# Altium footprint library footprints.PcbLib: 160 footprints (part 2 of 10)
Each footprint in its own frame and in the unit in brackets; x right, y up, seen from the top. Pads: shape width x height; smd on the part's side, far side on the other; paste and mask are expansions set on the pad; w line width, h text height; cw(c..) or ccw(c..) is an arc to the next point about the centre after c.
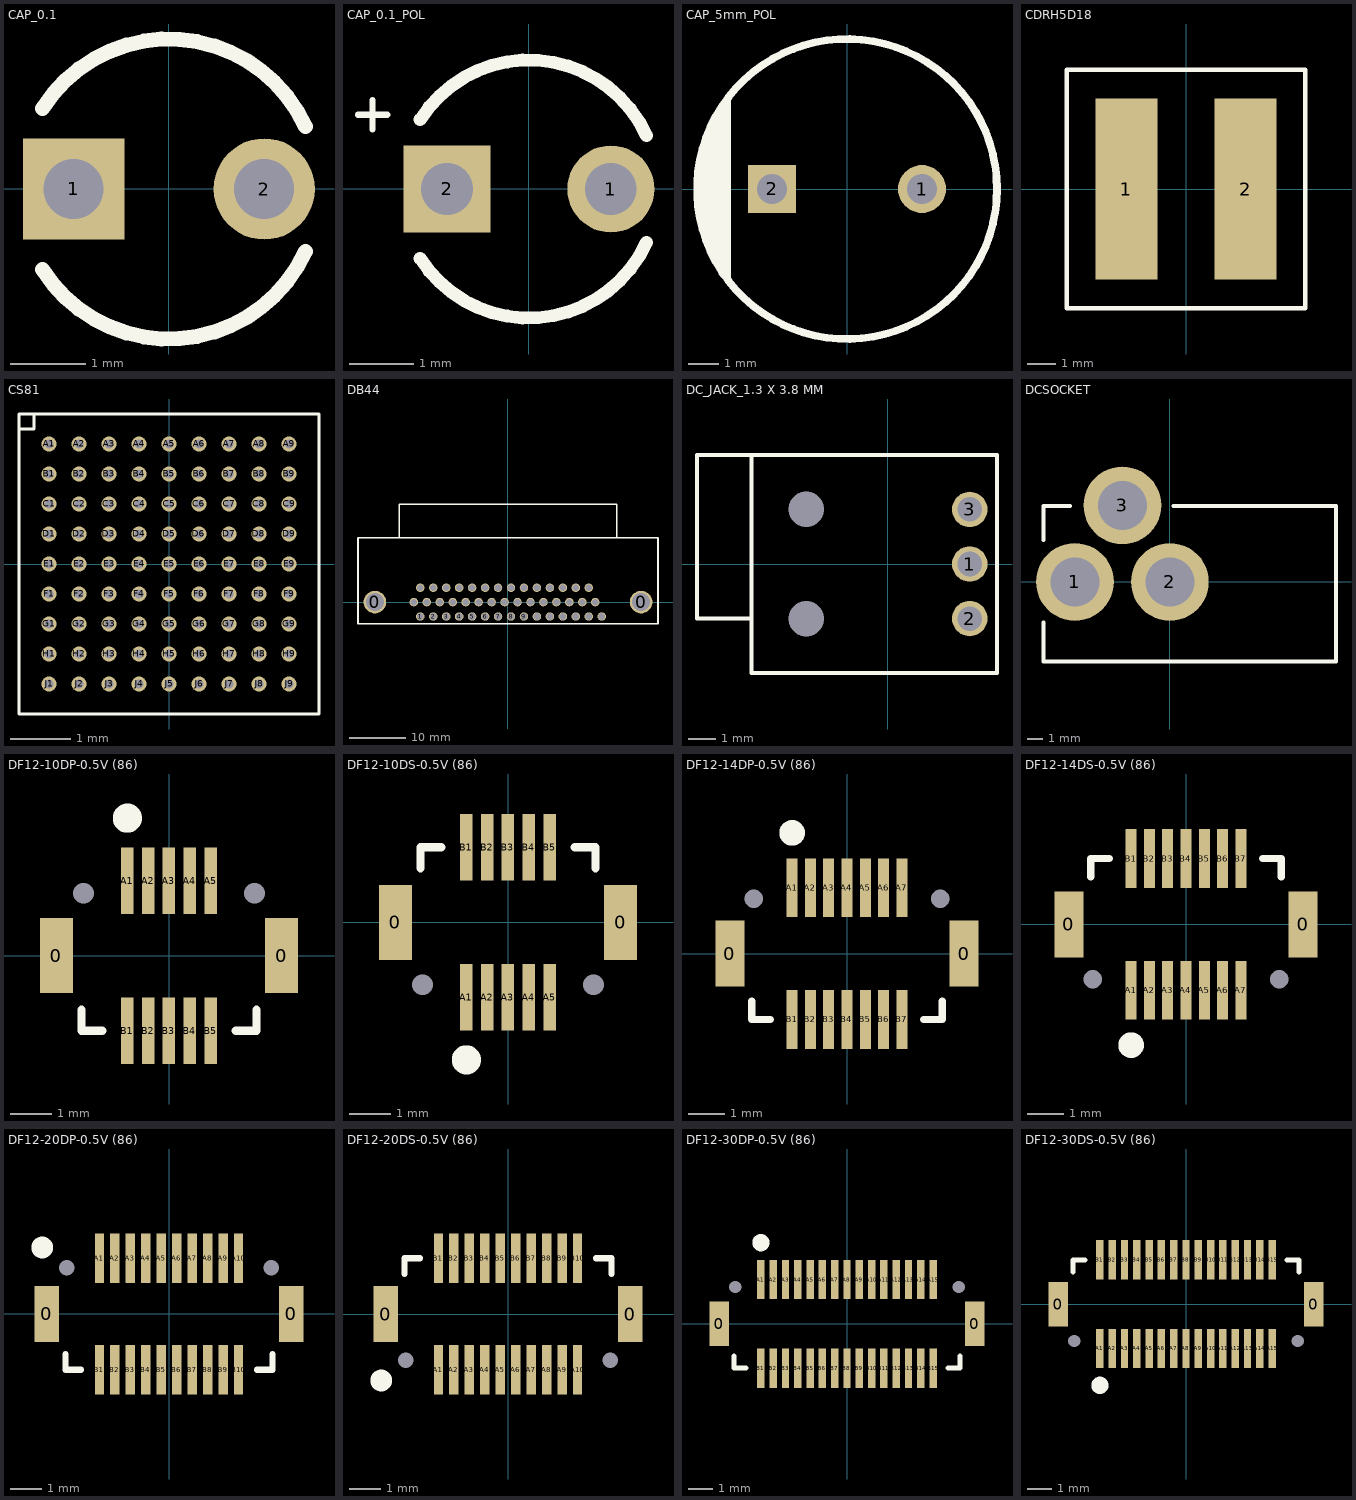
[diagram p1: the footprints below, top view; thin cyan lines are the x and y axes]

## CAP_0.1 [mm] "Capacitor; 2 Leads, 0.1\" spacing"
height 12
pads (2):
  rect 1.35x1.35 hole 0.8: 1(-1.27,0)
  round 1.35 hole 0.8: 2(1.27,0)
Top Overlay:
  lines w0.2: -1.687,-1.075 ccw(c0,0) 1.819,-0.832 ; -1.687,1.075 cw(c0,0) 1.819,0.832

## CAP_0.1_POL [mm] "Capacitor; 2 Leads, 0.1\" spacing, polarisation marker"
height 12
pads (2):
  round 1.35 hole 0.8: 1(1.27,0)
  rect 1.35x1.35 hole 0.8: 2(-1.27,0)
Top Overlay:
  lines w0.1: -2.65,1.15 -2.2,1.15 ; -2.425,0.925 -2.425,1.375
  lines w0.2: -1.687,-1.075 ccw(c0,0) 1.819,-0.832 ; -1.687,1.075 cw(c0,0) 1.819,0.832

## CAP_5mm_POL [mm] "Capacitor; 2 Leads, 5mm lead spacing, polarisation marker"
height 12
pads (2):
  round 1.6 hole 1: 1(2.5,0)
  rect 1.6x1.6 hole 1: 2(-2.5,0)
Top Overlay:
  circle w0.254: c0,0 r5
  lines w0.254: -4.75,-0.85 -4.75,1 ; -4.65,-1.45 -4.65,1.7 -4.5,1.85 -4.5,-2.15 -4.35,-2.3 -4.35,2.3 -4.15,2.5 -4.15,-2.8 -4,-2.95 -4,2.9

## CDRH5D18 [mm] "Inductor"
pads (2):
  rect 2.15x6.3 smd: 1(-2.075,0) 2(2.075,0)
Top Overlay:
  lines w0.152: -4.15,-4.15 -4.15,4.15 4.15,4.15 4.15,-4.15 -4.15,-4.15

## CS81 [mm]
height 0.8
pads (81):
  round 0.25 hole 0.152 mask+0.051: A1(-2,2) A2(-1.5,2) A3(-1,2) A4(-0.5,2) A5(0,2) A6(0.5,2) A7(1,2) A8(1.5,2) A9(2,2) B1(-2,1.5) B2(-1.5,1.5) B3(-1,1.5) B4(-0.5,1.5) B5(0,1.5) B6(0.5,1.5) B7(1,1.5) B8(1.5,1.5) B9(2,1.5) C1(-2,1) C2(-1.5,1) C3(-1,1) C4(-0.5,1) C5(0,1) C6(0.5,1) C7(1,1) C8(1.5,1) C9(2,1) D1(-2,0.5) D2(-1.5,0.5) D3(-1,0.5) D4(-0.5,0.5) D5(0,0.5) D6(0.5,0.5) D7(1,0.5) D8(1.5,0.5) D9(2,0.5) E1(-2,0) E2(-1.5,0) E3(-1,0) E4(-0.5,0) E5(0,0) E6(0.5,0) E7(1,0) E8(1.5,0) E9(2,0) F1(-2,-0.5) F2(-1.5,-0.5) F3(-1,-0.5) F4(-0.5,-0.5) F5(0,-0.5) F6(0.5,-0.5) F7(1,-0.5) F8(1.5,-0.5) F9(2,-0.5) G1(-2,-1) G2(-1.5,-1) G3(-1,-1) G4(-0.5,-1) G5(0,-1) G6(0.5,-1) G7(1,-1) G8(1.5,-1) G9(2,-1) H1(-2,-1.5) H2(-1.5,-1.5) H3(-1,-1.5) H4(-0.5,-1.5) H5(0,-1.5) H6(0.5,-1.5) H7(1,-1.5) H8(1.5,-1.5) H9(2,-1.5) J1(-2,-2) J2(-1.5,-2) J3(-1,-2) J4(-0.5,-2) J5(0,-2) J6(0.5,-2) J7(1,-2) J8(1.5,-2) J9(2,-2)
Top Overlay:
  lines w0.051: -2.5,2.25 -2.25,2.25 -2.25,2.5 ; -2.5,-2.5 -2.5,2.5 2.5,2.5 2.5,-2.5 -2.5,-2.5
3D body: height 0.8, standoff 0.07, extent -2.494,-2.525 2.5,2.5

## DB44 [mm] "DB44 high density right angle, through hole"
height 12.5
pads (46):
  round 4 hole 3.18: 0(-23.52,0) 0(23.52,0)
  round 1.5 hole 1.19: 1(-15.5,-2.54) 2(-13.21,-2.54) 3(-10.92,-2.54) 4(-8.63,-2.54) 5(-6.34,-2.54) 6(-4.05,-2.54) 7(-1.76,-2.54) 8(0.53,-2.54) 9(2.82,-2.54) 10(5.11,-2.54) 11(7.4,-2.54) 12(9.69,-2.54) 13(11.98,-2.54) 14(14.27,-2.54) 15(16.56,-2.54) 16(-16.64,0) 17(-14.35,0) 18(-12.06,0) 19(-9.77,0) 20(-7.48,0) 21(-5.19,0) 22(-2.9,0) 23(-0.61,0) 24(1.68,0) 25(3.97,0) 26(6.26,0) 27(8.55,0) 28(10.84,0) 29(13.13,0) 30(15.42,0) 31(-15.5,2.54) 32(-13.21,2.54) 33(-10.92,2.54) 34(-8.63,2.54) 35(-6.34,2.54) 36(-4.05,2.54) 37(-1.76,2.54) 38(0.53,2.54) 39(2.82,2.54) 40(5.11,2.54) 41(7.4,2.54) 42(9.69,2.54) 43(11.98,2.54) 44(14.27,2.54)
Top Overlay:
  lines w0.3: -19.2,11.37 -19.2,17.27 19.2,17.27 19.2,11.37 ; -26.5,-3.8 -26.5,11.37 26.5,11.37 26.5,-3.8 -26.5,-3.8
3D body: height 12.35, standoff -4.47, extent -26.675,-3.755 26.375,17.205

## DC_JACK_1.3 X 3.8 MM [mm]
pads (5):
  round 0 hole 1.3 unplated: 0(-3,-2) 0(-3,2)
  round 1.3 hole 0.9: 1(3,0) 2(3,-2) 3(3,2)
Top Overlay:
  lines w0.152: -5,-2 -7,-2 -7,4 -5,4 ; -5,4 4,4 4,-4 -5,-4 -5,4

## DCSOCKET [mm]
pads (3):
  round 5.08 hole 3.2: 1(-6.2,0) 2(0,0) 3(-3.1,5)
Top Overlay:
  lines w0.254: -8.248,-2.65 -8.248,-5.2 10.85,-5.2 10.85,4.95 0.25,4.95 ; -8.248,2.748 -8.248,4.95 -6.5,4.95

## DF12-10DP-0.5V (86) [mm] "board to board header, 0.5mm pitch, 10 pin, with metal fitting"
height 3
pads (14):
  rect 0.8x1.8 smd: 0(-2.7,0) 0(2.7,0)
  round 0 hole 0.5: 0(-2.05,1.5) 0(2.05,1.5)
  rect 0.3x1.6 smd: A1(-1,1.8) A2(-0.5,1.8) A3(0,1.8) A4(0.5,1.8) A5(1,1.8) B1(-1,-1.8) B2(-0.5,-1.8) B3(0,-1.8) B4(0.5,-1.8) B5(1,-1.8)
Top Overlay:
  circle w0.5: c-1,3.3 r0.1
  lines w0.2: -2.1,-1.3 -2.1,-1.8 -1.6,-1.8 ; 1.6,-1.8 2.1,-1.8 2.1,-1.3

## DF12-10DS-0.5V (86) [mm] "board to board receptacle, 0.5mm pitch, 10 pin, with metal fitting"
height 3
pads (14):
  rect 0.8x1.8 smd: 0(-2.7,0) 0(2.7,0)
  round 0 hole 0.5: 0(-2.05,-1.5) 0(2.05,-1.5)
  rect 0.3x1.6 smd: A1(-1,-1.8) A2(-0.5,-1.8) A3(0,-1.8) A4(0.5,-1.8) A5(1,-1.8) B1(-1,1.8) B2(-0.5,1.8) B3(0,1.8) B4(0.5,1.8) B5(1,1.8)
Top Overlay:
  circle w0.5: c-1,-3.3 r0.1
  lines w0.2: -2.1,1.3 -2.1,1.8 -1.6,1.8 ; 1.6,1.8 2.1,1.8 2.1,1.3

## DF12-14DP-0.5V (86) [mm] "board to board header, 0.5mm pitch, 14 pin, with metal fitting"
height 3
pads (18):
  rect 0.8x1.8 smd: 0(-3.2,0) 0(3.2,0)
  round 0 hole 0.5: 0(-2.55,1.5) 0(2.55,1.5)
  rect 0.3x1.6 smd: A1(-1.5,1.8) A2(-1,1.8) A3(-0.5,1.8) A4(0,1.8) A5(0.5,1.8) A6(1,1.8) A7(1.5,1.8) B1(-1.5,-1.8) B2(-1,-1.8) B3(-0.5,-1.8) B4(0,-1.8) B5(0.5,-1.8) B6(1,-1.8) B7(1.5,-1.8)
Top Overlay:
  circle w0.5: c-1.5,3.3 r0.1
  lines w0.2: -2.6,-1.3 -2.6,-1.8 -2.1,-1.8 ; 2.1,-1.8 2.6,-1.8 2.6,-1.3

## DF12-14DS-0.5V (86) [mm] "board to board receptacle, 0.5mm pitch, 14 pin, with metal fitting"
height 3
pads (18):
  rect 0.8x1.8 smd: 0(-3.2,0) 0(3.2,0)
  round 0 hole 0.5: 0(-2.55,-1.5) 0(2.55,-1.5)
  rect 0.3x1.6 smd: A1(-1.5,-1.8) A2(-1,-1.8) A3(-0.5,-1.8) A4(0,-1.8) A5(0.5,-1.8) A6(1,-1.8) A7(1.5,-1.8) B1(-1.5,1.8) B2(-1,1.8) B3(-0.5,1.8) B4(0,1.8) B5(0.5,1.8) B6(1,1.8) B7(1.5,1.8)
Top Overlay:
  circle w0.5: c-1.5,-3.3 r0.1
  lines w0.2: -2.6,1.3 -2.6,1.8 -2.1,1.8 ; 2.1,1.8 2.6,1.8 2.6,1.3

## DF12-20DP-0.5V (86) [mm] "board to board header, 0.5mm pitch, 20 pin, with metal fitting"
height 3
pads (24):
  rect 0.8x1.8 smd: 0(-3.95,0) 0(3.95,0)
  round 0 hole 0.5: 0(-3.3,1.5) 0(3.3,1.5)
  rect 0.3x1.6 smd: A1(-2.25,1.8) A2(-1.75,1.8) A3(-1.25,1.8) A4(-0.75,1.8) A5(-0.25,1.8) A6(0.25,1.8) A7(0.75,1.8) A8(1.25,1.8) A9(1.75,1.8) A10(2.25,1.8) B1(-2.25,-1.8) B2(-1.75,-1.8) B3(-1.25,-1.8) B4(-0.75,-1.8) B5(-0.25,-1.8) B6(0.25,-1.8) B7(0.75,-1.8) B8(1.25,-1.8) B9(1.75,-1.8) B10(2.25,-1.8)
Top Overlay:
  circle w0.5: c-4.1,2.15 r0.1
  lines w0.2: -3.35,-1.3 -3.35,-1.8 -2.85,-1.8 ; 2.85,-1.8 3.35,-1.8 3.35,-1.3

## DF12-20DS-0.5V (86) [mm] "board to board receptacle, 0.5mm pitch, 20 pin, with metal fitting"
height 3
pads (24):
  rect 0.8x1.8 smd: 0(-3.95,0) 0(3.95,0)
  round 0 hole 0.5: 0(-3.3,-1.5) 0(3.3,-1.5)
  rect 0.3x1.6 smd: A1(-2.25,-1.8) A2(-1.75,-1.8) A3(-1.25,-1.8) A4(-0.75,-1.8) A5(-0.25,-1.8) A6(0.25,-1.8) A7(0.75,-1.8) A8(1.25,-1.8) A9(1.75,-1.8) A10(2.25,-1.8) B1(-2.25,1.8) B2(-1.75,1.8) B3(-1.25,1.8) B4(-0.75,1.8) B5(-0.25,1.8) B6(0.25,1.8) B7(0.75,1.8) B8(1.25,1.8) B9(1.75,1.8) B10(2.25,1.8)
Top Overlay:
  circle w0.5: c-4.1,-2.15 r0.1
  lines w0.2: -3.35,1.3 -3.35,1.8 -2.85,1.8 ; 2.85,1.8 3.35,1.8 3.35,1.3

## DF12-30DP-0.5V (86) [mm] "board to board header, 0.5mm pitch, 30 pin, with metal fitting"
height 3
pads (34):
  rect 0.8x1.8 smd: 0(-5.2,0) 0(5.2,0)
  round 0 hole 0.5: 0(-4.55,1.5) 0(4.55,1.5)
  rect 0.3x1.6 smd: A1(-3.5,1.8) A2(-3,1.8) A3(-2.5,1.8) A4(-2,1.8) A5(-1.5,1.8) A6(-1,1.8) A7(-0.5,1.8) A8(0,1.8) A9(0.5,1.8) A10(1,1.8) A11(1.5,1.8) A12(2,1.8) A13(2.5,1.8) A14(3,1.8) A15(3.5,1.8) B1(-3.5,-1.8) B2(-3,-1.8) B3(-2.5,-1.8) B4(-2,-1.8) B5(-1.5,-1.8) B6(-1,-1.8) B7(-0.5,-1.8) B8(0,-1.8) B9(0.5,-1.8) B10(1,-1.8) B11(1.5,-1.8) B12(2,-1.8) B13(2.5,-1.8) B14(3,-1.8) B15(3.5,-1.8)
Top Overlay:
  circle w0.5: c-3.5,3.3 r0.1
  lines w0.2: -4.6,-1.3 -4.6,-1.8 -4.1,-1.8 ; 4.1,-1.8 4.6,-1.8 4.6,-1.3

## DF12-30DS-0.5V (86) [mm] "board to board receptacle, 0.5mm pitch, 30 pin, with metal fitting"
height 3
pads (34):
  rect 0.8x1.8 smd: 0(-5.2,0) 0(5.2,0)
  round 0 hole 0.5: 0(-4.55,-1.5) 0(4.55,-1.5)
  rect 0.3x1.6 smd: A1(-3.5,-1.8) A2(-3,-1.8) A3(-2.5,-1.8) A4(-2,-1.8) A5(-1.5,-1.8) A6(-1,-1.8) A7(-0.5,-1.8) A8(0,-1.8) A9(0.5,-1.8) A10(1,-1.8) A11(1.5,-1.8) A12(2,-1.8) A13(2.5,-1.8) A14(3,-1.8) A15(3.5,-1.8) B1(-3.5,1.8) B2(-3,1.8) B3(-2.5,1.8) B4(-2,1.8) B5(-1.5,1.8) B6(-1,1.8) B7(-0.5,1.8) B8(0,1.8) B9(0.5,1.8) B10(1,1.8) B11(1.5,1.8) B12(2,1.8) B13(2.5,1.8) B14(3,1.8) B15(3.5,1.8)
Top Overlay:
  circle w0.5: c-3.5,-3.3 r0.1
  lines w0.2: -4.6,1.3 -4.6,1.8 -4.1,1.8 ; 4.1,1.8 4.6,1.8 4.6,1.3